# EAGLE library part PRIVATEPLC (library STRASYS_CONTRL)
PRIVATE PLC (Strasys.at) Internet Steuerung 8 x Digital Output, 4 x Digital Input, 2 x PT100, 2 x Analog Out (0-10V), 2 x Analgo IN (0-10V), 2 x Analog OUT (0-10V), 4 x PT1000
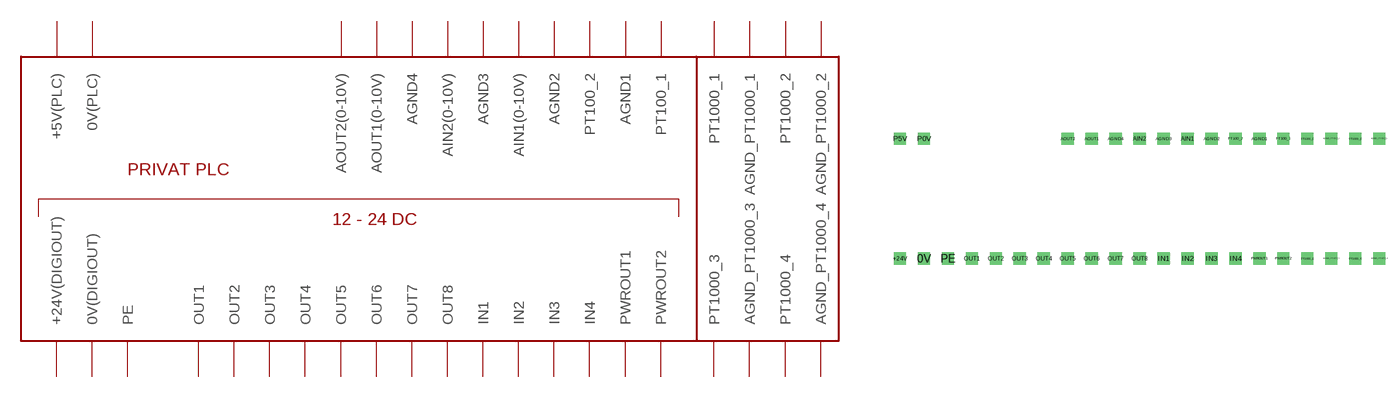
[diagram p0: symbol with the pads of PRIVATEPLC; footprint PRIVATEPLC]

Designator prefix -

## PRIVATEPLC  [PRIVATEPLC]
0V  0V(DIGIOUT)  pwr
+24V  +24V(DIGIOUT)  pwr
AGND1  AGND1
AGND2  AGND2
AGND3  AGND3
AGND4  AGND4
AGND_PT1000_1  AGND_PT1000_1
AGND_PT1000_2  AGND_PT1000_2
AGND_PT1000_3  AGND_PT1000_3
AGND_PT1000_4  AGND_PT1000_4
AIN1  AIN1(0-10V)
AIN2  AIN2(0-10V)
AOUT1  AOUT1(0-10V)
AOUT2  AOUT2(0-10V)
IN1  IN1
IN2  IN2
IN3  IN3
IN4  IN4
OUT1  OUT1
OUT2  OUT2
OUT3  OUT3
OUT4  OUT4
OUT5  OUT5
OUT6  OUT6
OUT7  OUT7
OUT8  OUT8
P0V  0V(PLC)  pwr
P5V  +5V(PLC)  pwr
PE  PE  pwr
PT100_1  PT100_1
PT100_2  PT100_2
PT1000_1  PT1000_1
PT1000_2  PT1000_2
PT1000_3  PT1000_3
PT1000_4  PT1000_4
PWROUT1  PWROUT1  pwr
PWROUT2  PWROUT2  pwr

## Footprint PRIVATEPLC (pad centres in mm)
drill 0.8 square: 0V -21.59,-6.35; +24V -24.13,-6.35; AGND1 13.97,6.35; AGND2 8.89,6.35; AGND3 3.81,6.35; AGND4 -1.27,6.35; AGND_PT1000_1 21.59,6.35; AGND_PT1000_2 26.67,6.35; AGND_PT1000_3 21.59,-6.35; AGND_PT1000_4 26.67,-6.35; AIN1 6.35,6.35; AIN2 1.27,6.35; AOUT1 -3.81,6.35; AOUT2 -6.35,6.35; IN1 3.81,-6.35; IN2 6.35,-6.35; IN3 8.89,-6.35; IN4 11.43,-6.35; OUT1 -16.51,-6.35; OUT2 -13.97,-6.35; OUT3 -11.43,-6.35; OUT4 -8.89,-6.35; OUT5 -6.35,-6.35; OUT6 -3.81,-6.35; OUT7 -1.27,-6.35; OUT8 1.27,-6.35; P0V -21.59,6.35; P5V -24.13,6.35; PE -19.05,-6.35; PT100_1 16.51,6.35; PT100_2 11.43,6.35; PT1000_1 19.05,6.35; PT1000_2 24.13,6.35; PT1000_3 19.05,-6.35; PT1000_4 24.13,-6.35; PWROUT1 13.97,-6.35; PWROUT2 16.51,-6.35